# EAGLE library part XC3S50VQ100 (library library)
Xilinx FPGA: XC3S50VQ100
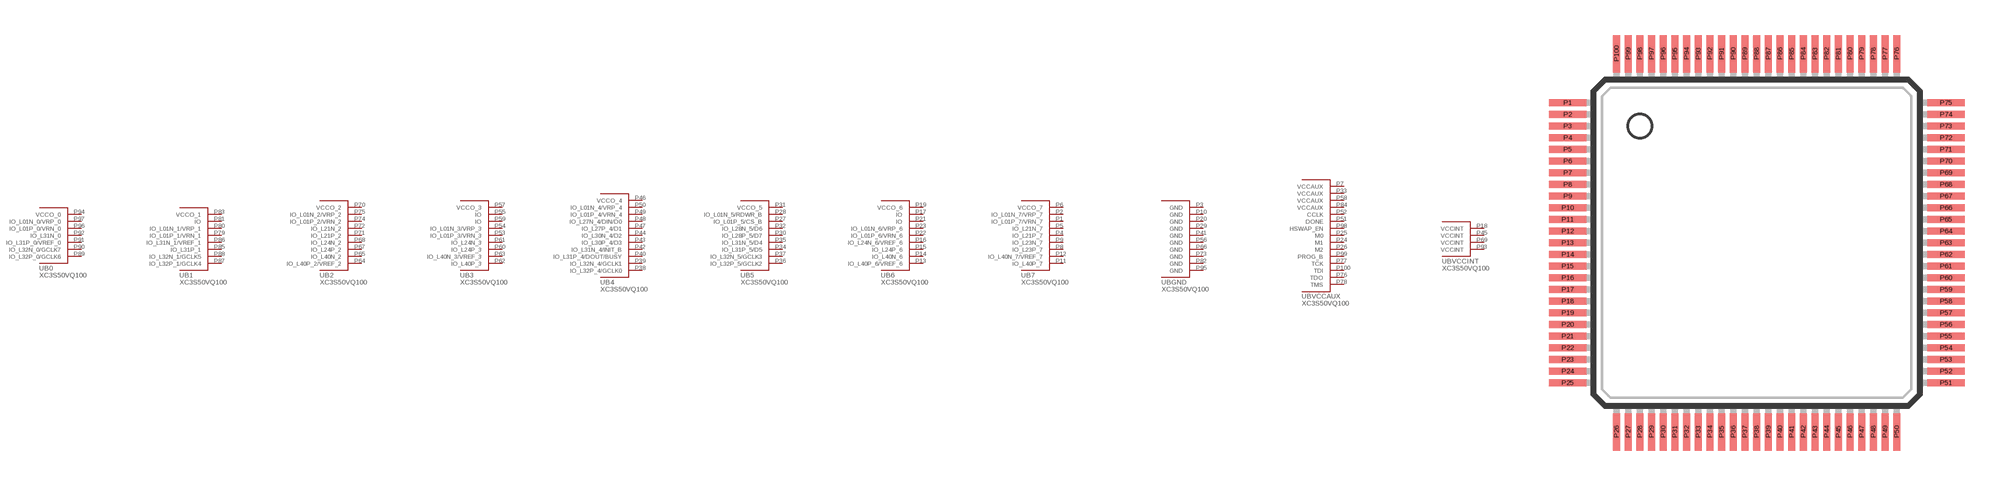
[diagram p0: symbol with the pads of VQ100; footprint VQ100]

Designator prefix U; gates B0=XC3S50VQ100_0 B1=XC3S50VQ100_1 B2=XC3S50VQ100_2 B3=XC3S50VQ100_3 B4=XC3S50VQ100_4 B5=XC3S50VQ100_5 B6=XC3S50VQ100_6 B7=XC3S50VQ100_7 BGND=XC3S50VQ100_GND BVCCAUX=XC3S50VQ100_VCCAUX BVCCINT=XC3S50VQ100_VCCINT

## XC3S50VQ100  [VQ100]
P1  B7:IO_L01P_7/VRN_7
P2  B7:IO_L01N_7/VRP_7
P3  BGND:GND  pwr
P4  B7:IO_L21P_7
P5  B7:IO_L21N_7
P6  B7:VCCO_7  in
P7  BVCCAUX:VCCAUX  in
P8  B7:IO_L23P_7
P9  B7:IO_L23N_7
P10  BGND:GND  pwr
P11  B7:IO_L40P_7
P12  B7:IO_L40N_7/VREF_7
P13  B6:IO_L40P_6/VREF_6
P14  B6:IO_L40N_6
P15  B6:IO_L24P_6
P16  B6:IO_L24N_6/VREF_6
P17  B6:IO
P18  BVCCINT:VCCINT  in
P19  B6:VCCO_6  in
P20  BGND:GND  pwr
P21  B6:IO
P22  B6:IO_L01P_6/VRN_6
P23  B6:IO_L01N_6/VRP_6
P24  BVCCAUX:M1  in
P25  BVCCAUX:M0  in
P26  BVCCAUX:M2  in
P27  B5:IO_L01P_5/CS_B
P28  B5:IO_L01N_5/RDWR_B
P29  BGND:GND  pwr
P30  B5:IO_L28P_5/D7
P31  B5:VCCO_5  in
P32  B5:IO_L28N_5/D6
P33  BVCCAUX:VCCAUX  in
P34  B5:IO_L31P_5/D5
P35  B5:IO_L31N_5/D4
P36  B5:IO_L32P_5/GCLK2
P37  B5:IO_L32N_5/GCLK3
P38  B4:IO_L32P_4/GCLK0
P39  B4:IO_L32N_4/GCLK1
P40  B4:IO_L31P_4/DOUT/BUSY
P41  BGND:GND  pwr
P42  B4:IO_L31N_4/INIT_B
P43  B4:IO_L30P_4/D3
P44  B4:IO_L30N_4/D2
P45  BVCCINT:VCCINT  in
P46  B4:VCCO_4  in
P47  B4:IO_L27P_4/D1
P48  B4:IO_L27N_4/DIN/D0
P49  B4:IO_L01P_4/VRN_4
P50  B4:IO_L01N_4/VRP_4
P51  BVCCAUX:DONE
P52  BVCCAUX:CCLK
P53  B3:IO_L01P_3/VRN_3
P54  B3:IO_L01N_3/VRP_3
P55  B3:IO
P56  BGND:GND  pwr
P57  B3:VCCO_3  in
P58  BVCCAUX:VCCAUX  in
P59  B3:IO
P60  B3:IO_L24P_3
P61  B3:IO_L24N_3
P62  B3:IO_L40P_3
P63  B3:IO_L40N_3/VREF_3
P64  B2:IO_L40P_2/VREF_2
P65  B2:IO_L40N_2
P66  BGND:GND  pwr
P67  B2:IO_L24P_2
P68  B2:IO_L24N_2
P69  BVCCINT:VCCINT  in
P70  B2:VCCO_2  in
P71  B2:IO_L21P_2
P72  B2:IO_L21N_2
P73  BGND:GND  pwr
P74  B2:IO_L01P_2/VRN_2
P75  B2:IO_L01N_2/VRP_2
P76  BVCCAUX:TDO  out
P77  BVCCAUX:TCK  in
P78  BVCCAUX:TMS  in
P79  B1:IO_L01P_1/VRN_1
P80  B1:IO_L01N_1/VRP_1
P81  B1:IO
P82  BGND:GND  pwr
P83  B1:VCCO_1  in
P84  BVCCAUX:VCCAUX  in
P85  B1:IO_L31P_1
P86  B1:IO_L31N_1/VREF_1
P87  B1:IO_L32P_1/GCLK4
P88  B1:IO_L32N_1/GCLK5
P89  B0:IO_L32P_0/GCLK6
P90  B0:IO_L32N_0/GCLK7
P91  B0:IO_L31P_0/VREF_0
P92  B0:IO_L31N_0
P93  BVCCINT:VCCINT  in
P94  B0:VCCO_0  in
P95  BGND:GND  pwr
P96  B0:IO_L01P_0/VRN_0
P97  B0:IO_L01N_0/VRP_0
P98  BVCCAUX:HSWAP_EN  in
P99  BVCCAUX:PROG_B  in
P100  BVCCAUX:TDI  in

## Footprint VQ100 (pad centres in mm)
VQ100
smd 1.6 x 0.3: P1 -8.1,6; P2 -8.1,5.5; P3 -8.1,5; P4 -8.1,4.5; P5 -8.1,4; P6 -8.1,3.5; P7 -8.1,3; P8 -8.1,2.5; P9 -8.1,2; P10 -8.1,1.5; P11 -8.1,1; P12 -8.1,0.5; P13 -8.1,0; P14 -8.1,-0.5; P15 -8.1,-1; P16 -8.1,-1.5; P17 -8.1,-2; P18 -8.1,-2.5; P19 -8.1,-3; P20 -8.1,-3.5; P21 -8.1,-4; P22 -8.1,-4.5; P23 -8.1,-5; P24 -8.1,-5.5; P25 -8.1,-6; P51 8.1,-6; P52 8.1,-5.5; P53 8.1,-5; P54 8.1,-4.5; P55 8.1,-4; P56 8.1,-3.5; P57 8.1,-3; P58 8.1,-2.5; P59 8.1,-2; P60 8.1,-1.5; P61 8.1,-1; P62 8.1,-0.5; P63 8.1,0; P64 8.1,0.5; P65 8.1,1; P66 8.1,1.5; P67 8.1,2; P68 8.1,2.5; P69 8.1,3; P70 8.1,3.5; P71 8.1,4; P72 8.1,4.5; P73 8.1,5; P74 8.1,5.5; P75 8.1,6
smd 0.3 x 1.6: P26 -6,-8.1; P27 -5.5,-8.1; P28 -5,-8.1; P29 -4.5,-8.1; P30 -4,-8.1; P31 -3.5,-8.1; P32 -3,-8.1; P33 -2.5,-8.1; P34 -2,-8.1; P35 -1.5,-8.1; P36 -1,-8.1; P37 -0.5,-8.1; P38 0,-8.1; P39 0.5,-8.1; P40 1,-8.1; P41 1.5,-8.1; P42 2,-8.1; P43 2.5,-8.1; P44 3,-8.1; P45 3.5,-8.1; P46 4,-8.1; P47 4.5,-8.1; P48 5,-8.1; P49 5.5,-8.1; P50 6,-8.1; P76 6,8.1; P77 5.5,8.1; P78 5,8.1; P79 4.5,8.1; P80 4,8.1; P81 3.5,8.1; P82 3,8.1; P83 2.5,8.1; P84 2,8.1; P85 1.5,8.1; P86 1,8.1; P87 0.5,8.1; P88 0,8.1; P89 -0.5,8.1; P90 -1,8.1; P91 -1.5,8.1; P92 -2,8.1; P93 -2.5,8.1; P94 -3,8.1; P95 -3.5,8.1; P96 -4,8.1; P97 -4.5,8.1; P98 -5,8.1; P99 -5.5,8.1; P100 -6,8.1